# Altium schematic symbol library Cap 1uf.SCHLIB: 3 symbols
Pins are listed as number, name and electrical type; pins without a type are passive.

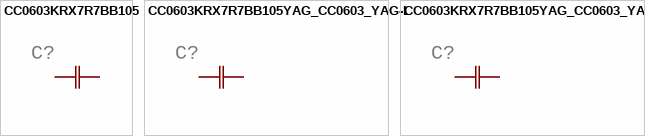
[diagram p0: symbols CC0603KRX7R7BB105 to CC0603KRX7R7BB105YAG_CC0603_YAG-M]

## CC0603KRX7R7BB105
designator C?
GateName_1: A; SymbolName_1: CAPH; DeviceSetName: CC0603KRX7R7BB105; BUILT_BY: EMA_UL_Team; SOURCELIBRARY: Yageo_2014-12-31; VENDOR: Yageo; LibraryName: Cap 1uf; Package: YAG_CC0603_YAG; MANUFACTURER_PART_NUMBER: CC0603KRX7R7BB105
footprint YAG_CC0603_YAG
pins: 1, 2

## CC0603KRX7R7BB105YAG_CC0603_YAG-L
designator C?
GateName_1: A; SymbolName_1: CAPH; DeviceName: YAG_CC0603_YAG-L; DeviceSetName: CC0603KRX7R7BB105; BUILT_BY: EMA_UL_Team; SOURCELIBRARY: Yageo_2014-12-31; VENDOR: Yageo; LibraryName: Cap 1uf; Package: YAG_CC0603_YAG-L; MANUFACTURER_PART_NUMBER: CC0603KRX7R7BB105
footprint YAG_CC0603_YAG-L
pins: 1, 2

## CC0603KRX7R7BB105YAG_CC0603_YAG-M
designator C?
GateName_1: A; SymbolName_1: CAPH; DeviceName: YAG_CC0603_YAG-M; DeviceSetName: CC0603KRX7R7BB105; BUILT_BY: EMA_UL_Team; SOURCELIBRARY: Yageo_2014-12-31; VENDOR: Yageo; LibraryName: Cap 1uf; Package: YAG_CC0603_YAG-M; MANUFACTURER_PART_NUMBER: CC0603KRX7R7BB105
footprint YAG_CC0603_YAG-M
pins: 1, 2